# Altium footprint library BarkockLib.PcbLib: 4 footprints
Each footprint in its own frame and in the unit in brackets; x right, y up, seen from the top. Pads: shape width x height; smd on the part's side, far side on the other; paste and mask are expansions set on the pad; w line width, h text height; cw(c..) or ccw(c..) is an arc to the next point about the centre after c.
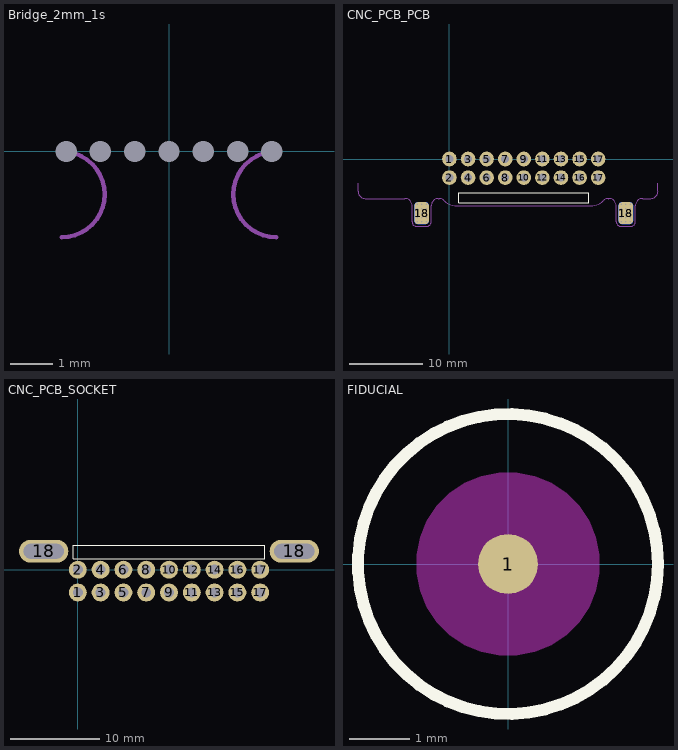
[diagram p0: the footprints below, top view; thin cyan lines are the x and y axes]

## Bridge_2mm_1s [mm]
pads (7):
  round 0 hole 0.5 unplated: 14(0,0) 15(-2.4,0) 15(-1.6,0) 15(-0.8,0) 15(0.8,0) 15(1.6,0) 15(2.4,0)
Mechanical 1:
  lines w0.1: -2.5,-2 ccw(c-2.5,-1) -1.5,-1 ccw(c-2.5,-1) -2.5,0 ; 2.5,-2 cw(c2.5,-1) 1.5,-1 cw(c2.5,-1) 2.5,0

## CNC_PCB_PCB [mm]
pads (22):
  round 2 hole 1.1: 1(0,0) 2(0,-2.54) 3(2.54,0) 4(2.54,-2.54) 5(5.08,0) 6(5.08,-2.54) 7(7.62,0) 8(7.62,-2.54) 9(10.16,0) 10(10.16,-2.54) 11(12.7,0) 12(12.7,-2.54) 13(15.24,0) 14(15.24,-2.54) 15(17.78,0) 16(17.78,-2.54) 17(20.32,-2.54) 17(20.32,0)
  rrect50% 2x3 smd: 18(-3.8,-7.4) 18(24.1,-7.4)
  rrect50% 2x3 smd far side: 18(-3.8,-7.4) 18(24.1,-7.4)
via -4.4,-6.205 diameter 0.4 hole 0.2
via -3.8,-6.2 diameter 0.4 hole 0.2
via -3.2,-6.205 diameter 0.4 hole 0.2
via -4.4,-6.805 diameter 0.4 hole 0.2
via -3.8,-6.8 diameter 0.4 hole 0.2
via -3.2,-6.805 diameter 0.4 hole 0.2
via -3.2,-8.6 diameter 0.4 hole 0.2
via -3.8,-8.6 diameter 0.4 hole 0.2
via -4.4,-8.6 diameter 0.4 hole 0.2
via -3.2,-8 diameter 0.4 hole 0.2
via -3.8,-8 diameter 0.4 hole 0.2
via -4.4,-8 diameter 0.4 hole 0.2
via -3.2,-7.4 diameter 0.4 hole 0.2
via -4.4,-7.4 diameter 0.4 hole 0.2
via -3.8,-7.4 diameter 0.4 hole 0.2
via 23.5,-6.205 diameter 0.4 hole 0.2
via 24.1,-6.2 diameter 0.4 hole 0.2
via 24.7,-6.205 diameter 0.4 hole 0.2
via 23.5,-6.805 diameter 0.4 hole 0.2
via 24.1,-6.8 diameter 0.4 hole 0.2
via 24.7,-6.805 diameter 0.4 hole 0.2
via 24.7,-8.6 diameter 0.4 hole 0.2
via 24.1,-8.6 diameter 0.4 hole 0.2
via 23.5,-8.6 diameter 0.4 hole 0.2
via 24.7,-8 diameter 0.4 hole 0.2
via 24.1,-8 diameter 0.4 hole 0.2
via 23.5,-8 diameter 0.4 hole 0.2
via 24.7,-7.4 diameter 0.4 hole 0.2
via 23.5,-7.4 diameter 0.4 hole 0.2
via 24.1,-7.4 diameter 0.4 hole 0.2
Top Overlay:
  lines w0.127: 1.27,-6 1.27,-4.636 19.05,-4.636 19.05,-6 1.27,-6
Mechanical 1:
  lines w0.1: -12.5,-3.3 -12.5,-4.4 ccw(c-11.5,-4.4) -11.5,-5.4 -6.1,-5.4 cw(c-6.1,-6.4) -5.1,-6.4 -5.1,-6.7 -5.1,-8.2 -5.1,-8.6 ccw(c-4.5,-8.6) -4.5,-9.2 -3.1,-9.2 ccw(c-3.1,-8.6) -2.5,-8.6 -2.5,-6.4 cw(c-1.5,-6.4) -1.5,-5.4 -1.424,-5.4 cw(c-1.424,-6.424) -0.7,-5.7 ccw(c0.99,-4.01) 0.99,-6.4 11.1,-6.4 19.31,-6.4 ccw(c19.31,-4.01) 21,-5.7 cw(c21.724,-6.424) 21.724,-5.4 21.8,-5.4 cw(c21.8,-6.4) 22.8,-6.4 22.8,-8.6 ccw(c23.4,-8.6) 23.4,-9.2 24.8,-9.2 ccw(c24.8,-8.6) 25.4,-8.6 25.4,-8.2 25.4,-6.7 25.4,-6.4 cw(c26.4,-6.4) 26.4,-5.4 27.5,-5.4 ccw(c27.5,-4.4) 28.5,-4.4 28.5,-3.3

## CNC_PCB_SOCKET [mm]
pads (20):
  round 2 hole 1.1: 1(0,-2.54) 2(0,0) 3(2.54,-2.54) 4(2.54,0) 5(5.08,-2.54) 6(5.08,0) 7(7.62,-2.54) 8(7.62,0) 9(10.16,-2.54) 10(10.16,0) 11(12.7,-2.54) 12(12.7,0) 13(15.24,-2.54) 14(15.24,0) 15(17.78,-2.54) 16(17.78,0) 17(20.32,-2.54) 17(20.32,0)
  oval 5.5x2.54 hole 1.65 slot 4.5 at 0 deg: 18(-3.81,2.055) 18(24.13,2.055)
Top Overlay:
  lines w0.127: -0.508,1.23 20.828,1.23 20.828,2.73 -0.508,2.73 -0.508,1.23

## FIDUCIAL [mm]
pads (1):
  round 1 smd paste+0 mask+1: 1(0,0)
Top Layer keep-out:
  region: 0,1.524 0.15,1.524 0.445,1.465 0.722,1.351 0.971,1.184 1.184,0.971 1.351,0.722 1.465,0.445 1.524,0.15 1.524,0 1.524,-0.15 1.465,-0.445 1.351,-0.722 1.184,-0.971 0.971,-1.184 0.722,-1.351 0.445,-1.465 0.15,-1.524 0,-1.524 -0.15,-1.524 -0.445,-1.465 -0.722,-1.351 -0.971,-1.184 -1.184,-0.971 -1.351,-0.722 -1.465,-0.445 -1.524,-0.15 -1.524,0 -1.524,0.15 -1.465,0.445 -1.351,0.722 -1.184,0.971 -0.971,1.184 -0.722,1.351 -0.445,1.465 -0.15,1.524
Top Overlay:
  circle w0.2: c0,0 r2.5